# EAGLE library part PT2322-S (library pt2322)
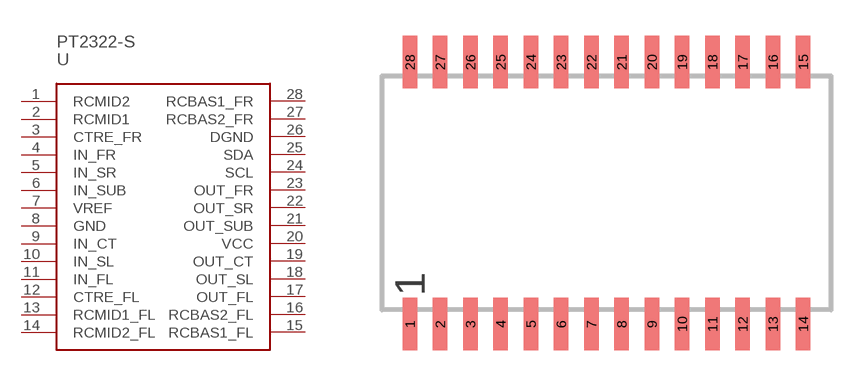
[diagram p0: symbol with the pads of SOP28; footprint SOP28]

Designator prefix U

## PT2322-S  [SOP28]
1  RCMID2
2  RCMID1
3  CTRE_FR
4  IN_FR  in
5  IN_SR  in
6  IN_SUB  in
7  VREF  pwr
8  GND  pwr
9  IN_CT  in
10  IN_SL  in
11  IN_FL  in
12  CTRE_FL
13  RCMID1_FL
14  RCMID2_FL
15  RCBAS1_FL
16  RCBAS2_FL
17  OUT_FL  out
18  OUT_SL  out
19  OUT_CT  out
20  VCC  pwr
21  OUT_SUB  out
22  OUT_SR  out
23  OUT_FR  out
24  SCL
25  SDA
26  DGND  pwr
27  RCBAS2_FR
28  RCBAS1_FR

## Footprint SOP28 (pad centres in mm)
SMALL OUTLINE PACKAGE
smd 0.6 x 2.2: 1 -8.255,-5.5; 2 -6.985,-5.5; 3 -5.715,-5.5; 4 -4.445,-5.5; 5 -3.175,-5.5; 6 -1.905,-5.5; 7 -0.635,-5.5; 8 0.635,-5.5; 9 1.905,-5.5; 10 3.175,-5.5; 11 4.445,-5.5; 12 5.715,-5.5; 13 6.985,-5.5; 14 8.255,-5.5; 15 8.255,5.5; 16 6.985,5.5; 17 5.715,5.5; 18 4.445,5.5; 19 3.175,5.5; 20 1.905,5.5; 21 0.635,5.5; 22 -0.635,5.5; 23 -1.905,5.5; 24 -3.175,5.5; 25 -4.445,5.5; 26 -5.715,5.5; 27 -6.985,5.5; 28 -8.255,5.5